# Altium footprint library STLINK.PcbLib: 8 footprints
Each footprint in its own frame and in the unit in brackets; x right, y up, seen from the top. Pads: shape width x height; smd on the part's side, far side on the other; paste and mask are expansions set on the pad; w line width, h text height; cw(c..) or ccw(c..) is an arc to the next point about the centre after c.
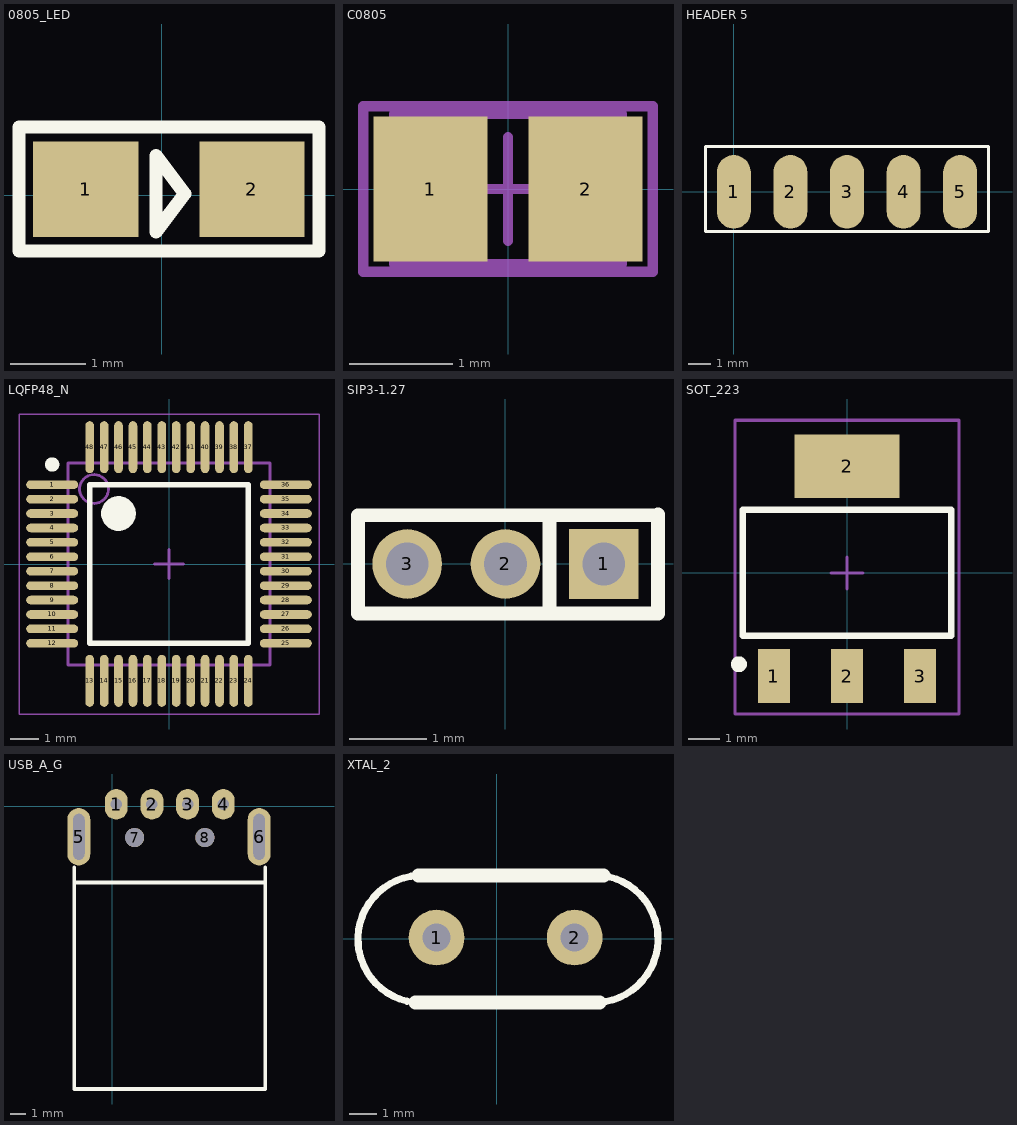
[diagram p0: the footprints below, top view; thin cyan lines are the x and y axes]

## 0805_LED [mm]
height 2
pads (2):
  rect 1.4x1.27 smd: 1(-1.011,0.083) 2(1.199,0.083)
Top Overlay:
  lines w0.178: -1.9,-0.74 -1.9,0.91 2.09,0.91 2.09,-0.74 -1.9,-0.74 ; -0.077,-0.485 -0.077,0.531 0.304,0.023 -0.077,-0.485

## C0805 [mm] "Chip Capacitor, Body 2.0x1.3mm, IPC High Density"
height 1.4
pads (2):
  rect 1.1x1.4 smd: 1(-0.75,0) 2(0.75,0)
Mechanical 13:
  lines w0.1: -1.1,-0.725 -1.1,0.725 1.1,0.725 1.1,-0.725 -1.1,-0.725
Mechanical 15:
  lines w0.1: -0.5,0 0.5,0 ; 0,-0.5 0,0.5 ; -1.4,-0.8 -1.4,0.8 1.4,0.8 1.4,-0.8 -1.4,-0.8
3D body: height 1.4, standoff 0, extent -1.1,-0.725 1.1,0.725

## HEADER 5 [mil]
pads (5):
  oval 60x130 smd: 1(0,0) 2(100,0) 3(200,0) 4(300,0) 5(400,0)
Top Overlay:
  lines w5: -50,-70 -50,-30 -50,80 450,80 450,-70 -50,-70
3D body "1001-5.STEP": height 70, standoff -30, extent -50,-406.22 450,48.11

## LQFP48_N [mm] "Thin QFP, 48-Leads, Body 7x7mm, Pitch 0.5mm, IPC Medium Density"
height 1.6
pads (48):
  oval 1.8x0.3 smd: 1(-4.05,2.75) 2(-4.05,2.25) 3(-4.05,1.75) 4(-4.05,1.25) 5(-4.05,0.75) 6(-4.05,0.25) 7(-4.05,-0.25) 8(-4.05,-0.75) 9(-4.05,-1.25) 10(-4.05,-1.75) 11(-4.05,-2.25) 12(-4.05,-2.75) 25(4.05,-2.75) 26(4.05,-2.25) 27(4.05,-1.75) 28(4.05,-1.25) 29(4.05,-0.75) 30(4.05,-0.25) 31(4.05,0.25) 32(4.05,0.75) 33(4.05,1.25) 34(4.05,1.75) 35(4.05,2.25) 36(4.05,2.75)
  oval 0.3x1.8 smd: 13(-2.75,-4.05) 14(-2.25,-4.05) 15(-1.75,-4.05) 16(-1.25,-4.05) 17(-0.75,-4.05) 18(-0.25,-4.05) 19(0.25,-4.05) 20(0.75,-4.05) 21(1.25,-4.05) 22(1.75,-4.05) 23(2.25,-4.05) 24(2.75,-4.05) 37(2.75,4.05) 38(2.25,4.05) 39(1.75,4.05) 40(1.25,4.05) 41(0.75,4.05) 42(0.25,4.05) 43(-0.25,4.05) 44(-0.75,4.05) 45(-1.25,4.05) 46(-1.75,4.05) 47(-2.25,4.05) 48(-2.75,4.05)
Top Overlay:
  circle w0.6: c-1.75,1.75 r0.3
  circle w0.25: c-4.05,3.45 r0.125
  lines w0.2: -2.75,-2.75 2.75,-2.75 2.75,2.75 -2.75,2.75 -2.75,-2.75
Mechanical 13:
  circle w0.1: c-2.6,2.6 r0.5
  lines w0.1: -3.5,-3.5 3.5,-3.5 3.5,3.5 -3.5,3.5 -3.5,-3.5
Mechanical 15:
  lines w0.05: -5.2,-5.2 5.2,-5.2 5.2,5.2 -5.2,5.2 -5.2,-5.2
  lines w0.1: -0.5,0 0.5,0 ; 0,-0.5 0,0.5
3D body: height 1.6, standoff 0, extent -3.5,-3.5 3.5,3.5

## SIP3-1.27 [mm]
pads (3):
  rect 0.9x0.9 hole 0.55: 1(1.27,0)
  round 0.9 hole 0.55: 2(0,0) 3(-1.27,0)
Top Overlay:
  lines w0.178: 0.57,-0.64 0.57,0.6 ; 1.97,0.508 1.97,0.63 -1.905,0.63 -1.905,-0.64 1.97,-0.64 1.97,0.64

## SOT_223 [mm]
height 1.8
pads (4):
  rect 1x1.7 smd: 1(-2.3,-3.25) 2(0,-3.25) 3(2.3,-3.25)
  rect 3.3x2 smd: 2(0,3.349)
Top Overlay:
  circle w0.25: c-3.401,-2.875 r0.125
  lines w0.2: -3.276,-1.981 3.276,-1.981 3.276,1.981 -3.276,1.981 -3.276,-1.981
Mechanical 15:
  lines w0.1: -0.5,0 0.5,0 ; 0,-0.5 0,0.5 ; -3.526,-4.44 3.526,-4.44 3.526,4.801 -3.526,4.801 -3.526,-4.44
3D body "SOT_223.STEP": height 1.93, standoff 0, extent -3.25,-3.507 3.25,3.508

## USB_A_G [mil]
height 68.9
pads (8):
  oval 60x80 hole 30: 1(10,5) 2(103.33,5) 3(196.67,5) 4(290,5)
  oval 60x150 hole 30 slot 120 at 90 deg: 5(-88,-80) 6(384,-80)
  round 50 hole 50: 7(58,-82) 8(242,-82)
Top Overlay:
  lines w10: -100,-160 -100,-200 ; 400,-160 400,-200 ; -100,-200 -100,-740 400,-740 400,-200 ; -100,-200 400,-200
3D body "USB-AM-S-F-B-TH.STEP": height 177.95, standoff -46.46, extent -96.06,-778.11 396.07,10.47

## XTAL_2 [mm]
height 2.1
pads (2):
  round 2 hole 1: 1(-2.157,0.035) 2(2.796,0.035)
Top Overlay:
  lines w0.254: -2.956,-2.294 cw(c-2.688,-0.02) -2.815,2.266 ; 3.625,-2.296 ccw(c3.498,-0.01) 3.766,2.264
  lines w0.5: -2.922,-2.289 3.682,-2.289 ; -2.815,2.266 3.84,2.266
3D body "SW3dPS-HP49US.STEP": height 3.5, standoff -4, extent -5.294,-2.364 6.056,2.286